# Altium footprint library TF01A.PcbLib: 1 footprints
Each footprint in its own frame and in the unit in brackets; x right, y up, seen from the top. Pads: shape width x height; smd on the part's side, far side on the other; paste and mask are expansions set on the pad; w line width, h text height; cw(c..) or ccw(c..) is an arc to the next point about the centre after c.
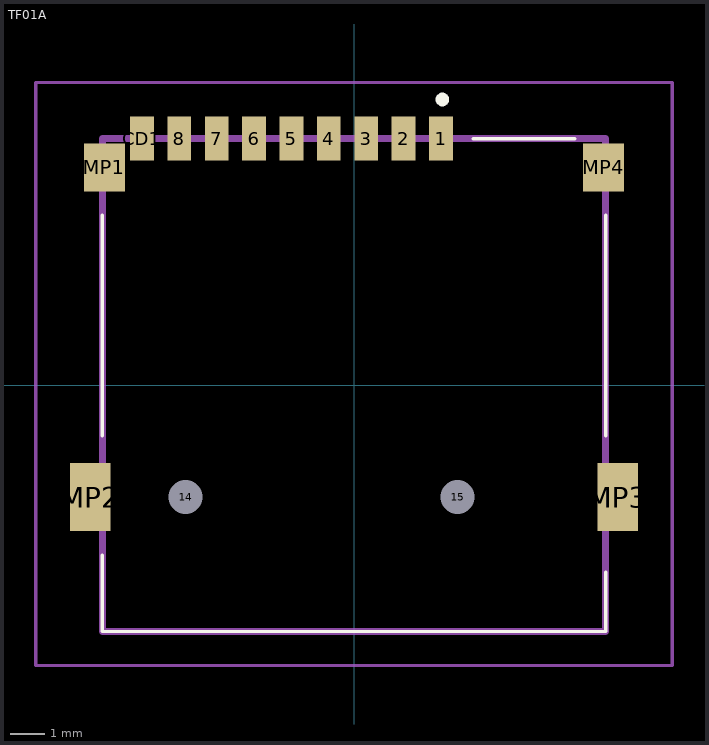
[diagram p0: the footprint, top view; thin cyan lines are the x and y axes]

## TF01A [mm]
pads (15):
  rect 0.7x1.3 smd: 1(2.56,7.25) 2(1.46,7.25) 3(0.36,7.25) 4(-0.74,7.25) 5(-1.84,7.25) 6(-2.94,7.25) 7(-4.04,7.25) 8(-5.14,7.25) CD1(-6.24,7.25)
  round 0.5 hole 1 unplated: 14(-4.95,-3.3) 15(3.05,-3.3)
  rect 1.2x1.4 smd: MP1(-7.34,6.4) MP4(7.34,6.4)
  rect 1.2x2 smd: MP2(-7.76,-3.3) MP3(7.76,-3.3)
Top Overlay:
  lines w0.1: -7.4,-5 -7.4,-7.25 7.4,-7.25 7.4,-5.5 ; -7.4,-1.5 -7.4,5 ; 3.5,7.25 6.5,7.25 ; 7.4,-1.5 7.4,5
  lines w0.2: 2.6,8.3 2.6,8.3 ; 2.6,8.3 ccw(c2.6,8.4) 2.6,8.5 ; 2.6,8.3 cw(c2.6,8.4) 2.6,8.5 ; 2.6,8.5 2.6,8.5
Mechanical 15:
  lines w0.2: -7.4,-7.25 7.4,-7.25 7.4,7.25 -7.4,7.25 -7.4,-7.25
Mechanical 20:
  lines w0.1: -9.36,-8.25 9.36,-8.25 9.36,8.9 -9.36,8.9 -9.36,-8.25
3D body "TF-01A.stp": height 5.8, standoff -4.65, extent -10,-3.376 10,3.376